# EAGLE library part WE-RJ45_7499210123A (library 74980104400_Eagle_WE-RJ45_rev19b)
WE-RJ45 LAN Transformer Characteristics RJ45 Connector with integrated transformer / common mode choke Power over Ethernet up to 50 Watt and speeds up to 10 Gbit/s Available in SMD, THT and THT with USB Compliant with standards: IEEE 802.3u, IEEE 802.3ab, IEEE 802.3af, IEEE 802.3at, IEEE 802.3an and upcoming IEE 802.3bt Applications Suitable for industrial temperatures from –40 °C up to +85 °C Compatible to Industrial Ethernet systems like EtherCAT or Profinet Compliant with most IC’s for Ethernet applications such as Microchip, Texas Instruments, Broadcom, Linear Technology Hubs, Routers, Switches, IP cameras, IoT applications <https://katalog.we-online.com/media/images/v2/o35731v209%20Family_WE-RJ45-LAN.jpg> Details see: https://katalog.we-online.com/en/pbs/WE-LAN-RJ45 Updated by Ella Wu 2019-08-05 2019 (C) Wurth Elektronik
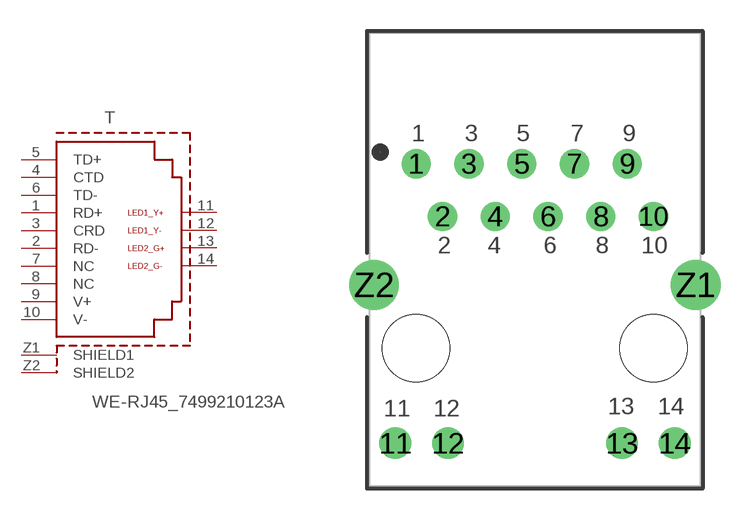
[diagram p1: symbol with the pads of 7499210123A; footprint 7499210123A]

Designator prefix T

## WE-RJ45_7499210123A (DATA-RATE: 10/100 Base-T; DATASHEET-URL: https://katalog.we-online.com/pbs/datasheet/7499210123A.pdf; LED: yellow-green; MOUNT: THT; PART-NUMBER: 7499210123A; POE: PoE (up to 350 mA); PORTS: 1; USB: No)  [7499210123A]
1  RD+
2  RD-
3  CRD
4  CTD
5  TD+
6  TD-
7  NC
8  NC
9  V+
10  V-
11  LED1_Y+  pas
12  LED1_Y-  pas
13  LED2_G+  pas
14  LED2_G-  pas
Z1  SHIELD1  pwr
Z2  SHIELD2  pwr

## Footprint 7499210123A (pad centres in mm)
WE-RJ45 LAN Transformer 10/100 Base-T
drill 0.9: 1 -5.715,8.89; 2 -4.445,6.35; 3 -3.175,8.89; 4 -1.905,6.35; 5 -0.635,8.89; 6 0.635,6.35; 7 1.905,8.89; 8 3.175,6.35; 9 4.445,8.89; 10 5.715,6.35
drill 1.02: 11 -6.73,-4.57; 12 -4.19,-4.57; 13 4.19,-4.57; 14 6.73,-4.57
drill 1.6: Z1 7.745,3.05; Z2 -7.745,3.05
hole 3.25 at -5.715,0
hole 3.25 at 5.715,0